# Altium footprint library big-auv-power.PcbLib: 18 footprints (part 1 of 2)
Each footprint in its own frame and in the unit in brackets; x right, y up, seen from the top. Pads: shape width x height; smd on the part's side, far side on the other; paste and mask are expansions set on the pad; w line width, h text height; cw(c..) or ccw(c..) is an arc to the next point about the centre after c.
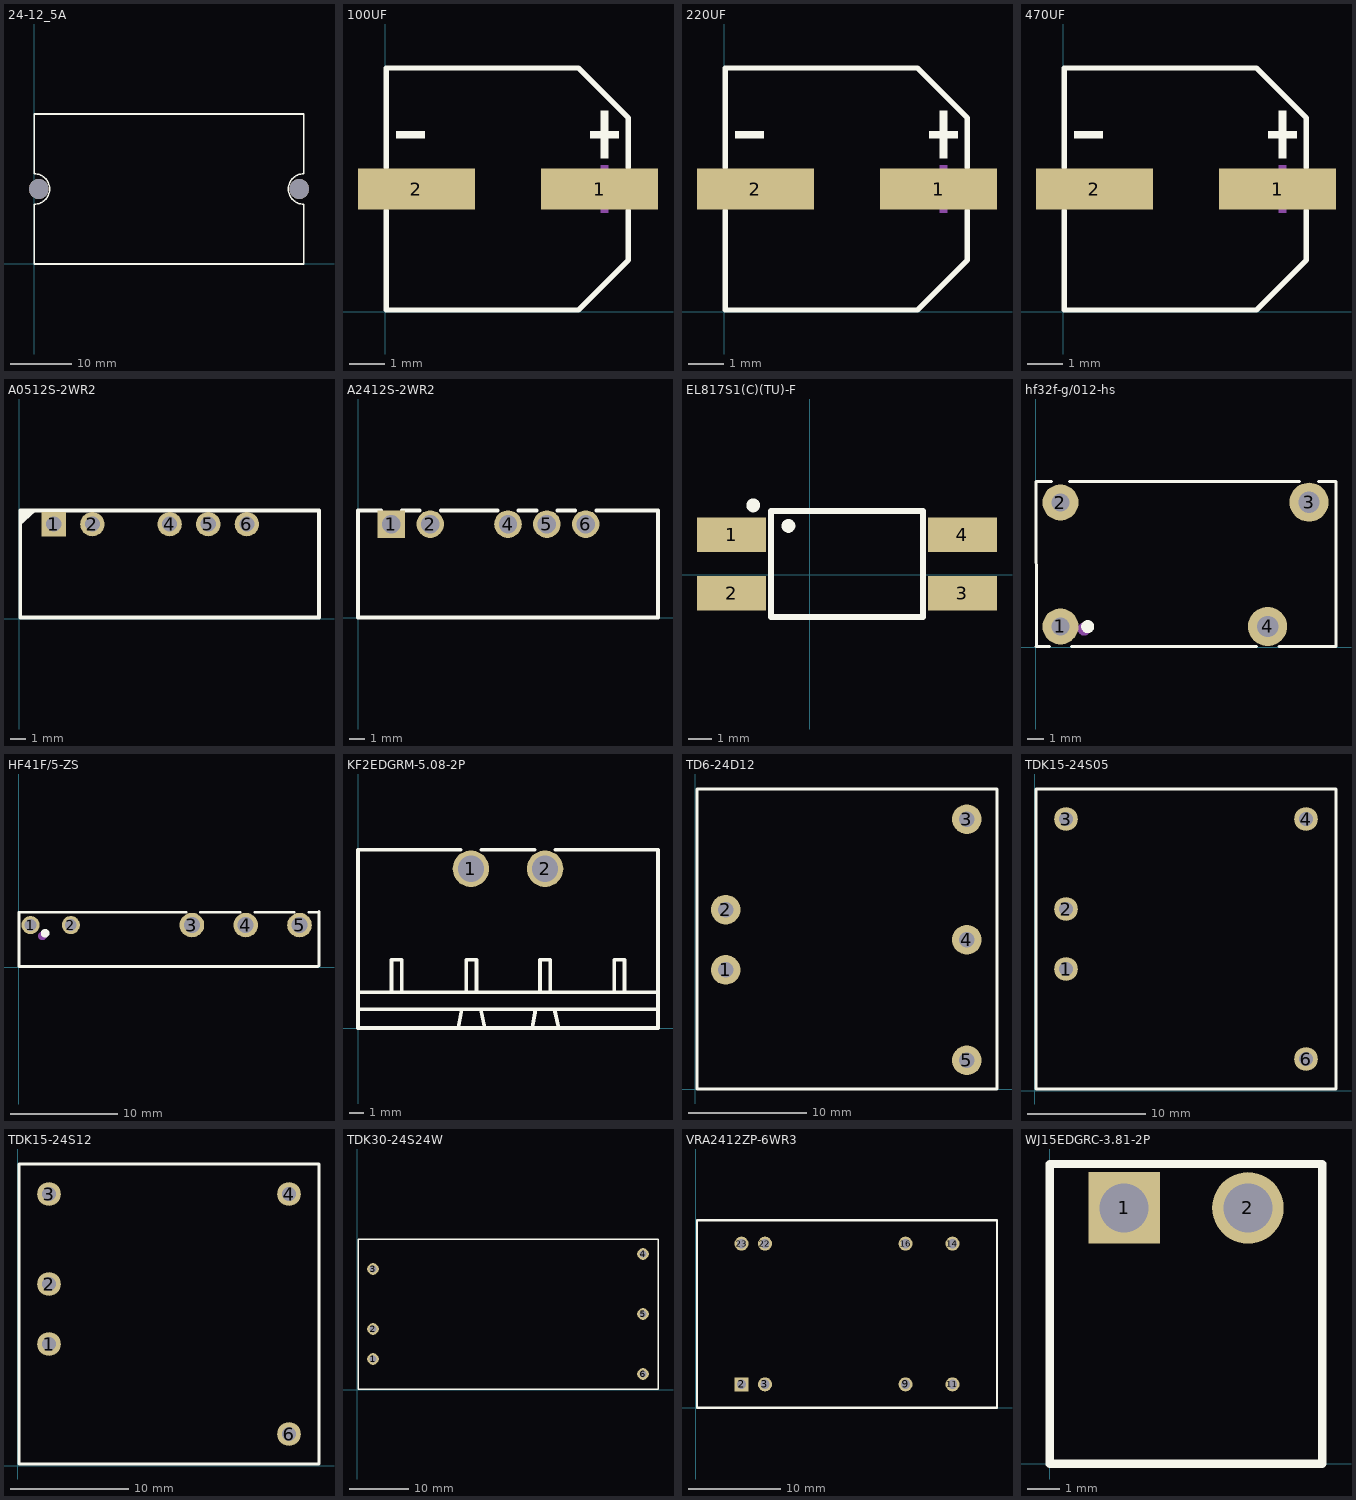
[diagram p0: the footprints below, top view; thin cyan lines are the x and y axes]

## 24-12_5A [mm]
via 0.75,12.25 diameter 3.2 hole 3.2
via 43.25,12.25 diameter 3.2 hole 3.2
Top Overlay:
  lines w0.254: 0,0 0,9.75 ccw(c0,12.25) 2.5,12.25 ccw(c0,12.25) 0,14.75 0,24.5 44,24.5 44,14.75 ccw(c44,12.25) 41.5,12.25 ccw(c44,12.25) 44,9.75 44,0 0,0

## 100UF [mm] "SMD,6.3x7.7mm"
pads (2):
  rect 3.26x1.15 smd: 1(5.984,3.429) 2(0.874,3.429)
Top Overlay:
  region: 0.312,4.848 0.312,5.046 1.104,5.046 1.104,4.848
  region: 6.516,4.848 6.516,5.046 5.724,5.046 5.724,4.848
  region: 6.219,4.287 6.219,5.607 6.021,5.607 6.021,4.287
  lines w0.152: 0.038,2.822 0.038,0.053 5.394,0.053 6.79,1.449 6.79,2.822 ; 0.038,4.036 0.038,6.805 5.394,6.805 6.79,5.409 6.79,4.036
Mechanical 15:
  region: 0.312,3.33 0.312,3.528 1.104,3.528 1.104,3.33
  region: 6.516,3.33 6.516,3.528 5.724,3.528 5.724,3.33
  region: 6.219,2.769 6.219,4.089 6.021,4.089 6.021,2.769

## 220UF [mm] "SMD,6.3x7.7mm"
pads (2):
  rect 3.26x1.15 smd: 1(5.984,3.429) 2(0.874,3.429)
Top Overlay:
  region: 6.219,4.287 6.219,5.607 6.021,5.607 6.021,4.287
  region: 6.516,4.848 6.516,5.046 5.724,5.046 5.724,4.848
  region: 0.312,4.848 0.312,5.046 1.104,5.046 1.104,4.848
  lines w0.152: 0.038,2.822 0.038,0.053 5.394,0.053 6.79,1.449 6.79,2.822 ; 0.038,4.036 0.038,6.805 5.394,6.805 6.79,5.409 6.79,4.036
Mechanical 15:
  region: 6.219,2.769 6.219,4.089 6.021,4.089 6.021,2.769
  region: 6.516,3.33 6.516,3.528 5.724,3.528 5.724,3.33
  region: 0.312,3.33 0.312,3.528 1.104,3.528 1.104,3.33

## 470UF [mm] "SMD,6.3x7.7mm"
pads (2):
  rect 3.26x1.15 smd: 1(5.984,3.429) 2(0.874,3.429)
Top Overlay:
  region: 6.219,4.287 6.219,5.607 6.021,5.607 6.021,4.287
  region: 6.516,4.848 6.516,5.046 5.724,5.046 5.724,4.848
  region: 0.312,4.848 0.312,5.046 1.104,5.046 1.104,4.848
  lines w0.152: 0.038,2.822 0.038,0.053 5.394,0.053 6.79,1.449 6.79,2.822 ; 0.038,4.036 0.038,6.805 5.394,6.805 6.79,5.409 6.79,4.036
Mechanical 15:
  region: 6.219,2.769 6.219,4.089 6.021,4.089 6.021,2.769
  region: 6.516,3.33 6.516,3.528 5.724,3.528 5.724,3.33
  region: 0.312,3.33 0.312,3.528 1.104,3.528 1.104,3.33

## A0512S-2WR2 [mm]
pads (5):
  rect 1.6x1.6 hole 1: 1(2.286,6.223)
  round 1.6 hole 1: 2(4.826,6.223) 4(9.906,6.223) 5(12.446,6.223) 6(14.986,6.223)
Top Overlay:
  region: 0,7.112 0,6.096 1.143,7.112
  lines w0.254: 0.081,0.073 0.081,7.123 19.731,7.123 19.731,0.073 0.081,0.073

## A2412S-2WR2 [mm]
pads (5):
  rect 1.8x1.8 hole 1.2: 1(2.159,6.096)
  round 1.8 hole 1.2: 2(4.699,6.096) 4(9.779,6.096) 5(12.319,6.096) 6(14.859,6.096)
Top Overlay:
  lines w0.254: -0.021,-0.004 -0.021,6.996 1.475,6.996 ; -0.021,0 19.579,0 ; 2.843,6.996 4.015,6.996 ; 5.383,6.996 9.095,6.996 ; 10.463,6.996 11.635,6.996 ; 13.003,6.996 14.175,6.996 ; 15.543,6.996 19.579,6.996 19.579,-0.004

## EL817S1(C)(TU)-F [mm]
pads (4):
  rect 3x1.5 smd: 1(-3.381,1.742) 2(-3.381,-0.798) 3(6.619,-0.798) 4(6.619,1.742)
Top Overlay:
  circle w0.3: c-2.445,3.012 r0.15
  circle w0.3: c-0.921,2.123 r0.15
  lines w0.254: -1.681,-1.828 4.919,-1.828 4.919,2.772 -1.681,2.772 -1.681,-1.828
Mechanical 15:
  circle w0.6: c-2.953,1.742 r0.3

## hf32f-g/012-hs [mm]
pads (4):
  round 2.2 hole 1.1: 1(1.524,1.27) 2(1.524,8.87)
  round 2.4 hole 1.3: 3(16.764,8.89) 4(14.224,1.27)
Top Overlay:
  circle w0.4: c3.194,1.26 r0.2
  lines w0.2: 0.034,0.04 0.831,0.05 ; 0.053,0.05 0.024,10.16 0.974,10.16 ; 2.074,10.16 16.168,10.16 ; 2.217,0.05 13.531,0.05 ; 14.917,0.05 18.414,0.05 18.414,10.16 17.36,10.16
Mechanical 15:
  circle w0.4: c2.974,1.11 r0.2

## HF41F/5-ZS [mm]
pads (5):
  round 1.7 hole 1.1: 1(1.116,3.937) 2(4.896,3.937)
  round 2.3 hole 1.5: 3(16.236,3.937) 4(21.276,3.937) 5(26.316,3.937)
Top Overlay:
  circle w0.4: c2.486,3.175 r0.2
  lines w0.254: 15.674,5.137 0.039,5.137 0.039,0.057 28.04,0.057 ; 17.037,5.137 20.754,5.137 ; 22.117,5.137 25.834,5.137 ; 27.197,5.137 28.04,5.137 ; 28.14,0.127 28.14,5.207
Mechanical 15:
  circle w0.4: c2.232,2.921 r0.2

## KF2EDGRM-5.08-2P [mm]
pads (2):
  round 2.5 hole 1.8: 1(7.73,10.922) 2(12.81,10.922)
Top Overlay:
  lines w0.254: 0,1.303 20.54,1.303 ; 0,2.465 20.54,2.465 ; 2.29,2.462 2.29,4.695 2.994,4.695 2.994,2.462 2.994,2.536 ; 6.862,0.022 7.096,1.303 ; 7.023,12.222 0,12.222 0,0.022 20.54,0.022 20.54,12.222 16.776,12.222 ; 7.407,2.466 7.407,4.699 8.111,4.699 8.111,2.466 8.111,2.54 ; 8.392,1.303 8.684,0.022 ; 8.437,12.222 12.103,12.222 ; 11.921,0 12.155,1.281 ; 12.46,2.462 12.46,4.695 13.164,4.695 13.164,2.462 13.164,2.536 ; 13.45,1.281 13.743,0 ; 13.517,12.222 17.183,12.222 ; 17.54,2.462 17.54,4.694 18.244,4.694 18.244,2.462

## TD6-24D12 [mm]
pads (5):
  round 2.5 hole 1.3: 1(2.54,10.033) 2(2.54,15.113) 3(22.86,22.733) 4(22.86,12.573) 5(22.86,2.413)
Top Overlay:
  lines w0.254: 0.127,0 0.127,25.273 25.4,25.273 25.4,0 0.127,0

## TDK15-24S05 [mm]
pads (5):
  round 2 hole 1.2: 1(2.667,10.287) 2(2.667,15.367) 3(2.667,22.987) 4(22.987,22.987) 6(22.987,2.667)
Top Overlay:
  lines w0.254: 0.127,0.127 25.527,0.127 25.527,25.527 0.127,25.527 0.127,0.127

## TDK15-24S12 [mm]
pads (5):
  round 2 hole 1.2: 1(2.667,10.287) 2(2.667,15.367) 3(2.667,22.987) 4(22.987,22.987) 6(22.987,2.667)
Top Overlay:
  lines w0.254: 0.127,0.127 0.127,25.527 25.527,25.527 25.527,0.127 0.127,0.127

## TDK30-24S24W [mm]
pads (6):
  round 2 hole 1.2: 1(2.667,5.207) 2(2.667,10.287) 3(2.667,20.447) 4(48.387,22.987) 5(48.387,12.827) 6(48.387,2.667)
Top Overlay:
  lines w0.254: 0.127,0.127 50.927,0.127 50.927,25.527 0.127,25.527 0.127,0.127

## VRA2412ZP-6WR3 [mil]
pads (8):
  rect 60x60 hole 39.37: 2(195,100)
  round 60 hole 39.37: 3(295,100) 9(895,100) 11(1095,100) 14(1095,700) 16(895,700) 22(295,700) 23(195,700)
Top Overlay:
  lines w10: 5,0 1285,0 1285,800 5,800 5,0

## WJ15EDGRC-3.81-2P [mm]
pads (2):
  rect 2.2x2.2 hole 1.5: 1(2.286,7.874)
  round 2.2 hole 1.5: 2(6.096,7.874)
Top Overlay:
  lines w0.254: 0,-0.006 0,9.144 ; 0,0 8.382,0 8.382,9.144 ; 0,9.224 8.382,9.224